# EAGLE library part RT6200 (library SPEAR-arm-control)
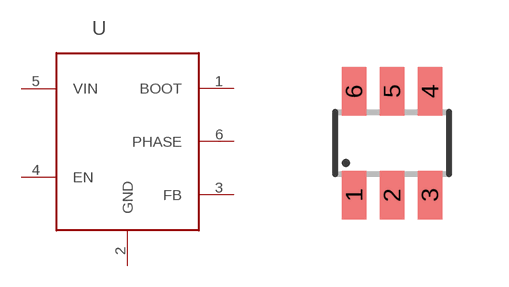
[diagram p4: symbol with the pads of TSOT23-6; footprint TSOT23-6]

Designator prefix -

## RT6200  [TSOT23-6]
1  BOOT
2  GND  pwr
3  FB
4  EN
5  VIN  pwr
6  PHASE  pwr

## Footprint TSOT23-6 (pad centres in mm)
S6 Package 6-Lead Plastic TSOT-23 Source: http://cds.linear.com/docs/Datasheet/623012fb.pdf
smd 0.62 x 1.22: 1 -0.95,-1.3; 2 0,-1.3; 3 0.95,-1.3; 4 0.95,1.3; 5 0,1.3; 6 -0.95,1.3